# Altium schematic symbol library Sensors.SchLib: 1 symbol
Pins are listed as number, name and electrical type; pins without a type are passive.

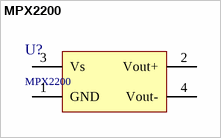
[diagram p0: symbol MPX2200]

## MPX2200
designator U?
On-Chip Temperature Compensated Silicon Pressure Sensor; Linearity[±%]: 0.25; Pressure[kPa]: 200; Device: MPX2200; Appnote: http://www.nxp.com/docs/en/application-note/AN1324.pdf; Datasheet: https://cdn.sos.sk/productdata/64/0f/6a73dcb6/mpx-2202-ap.pdf
footprint MPX2200
footprint MPX2200_LEFTBEND
footprint MPX2200_RIGHTBEND
pins: 1 GND, 2 Vout+, 3 Vs, 4 Vout-